# Altium schematic symbol library 1755794.SchLib: 1 symbol
Pins are listed as number, name and electrical type; pins without a type are passive.

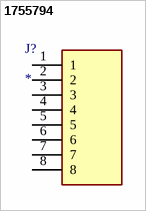
[diagram p0: symbol 1755794]

## 1755794
designator J?
Connector; Manufacturer_Name: Phoenix Contact; Manufacturer_Part_Number: 1755794; Datasheet Link: http://www.phoenixcontact.com/de/produkte/1755794/pdf; Height: 12.15mm; Mouser Part Number: 651-1755794; Mouser Price/Stock: https://www.mouser.co.uk/ProductDetail/Phoenix-Contact/1755794?qs=wd%252Bw3mUqFrk%2FIOZ4HDo8lg%3D%3D; Arrow Part Number: 1755794; Arrow Price/Stock: https://www.arrow.com/en/products/1755794/phoenix-contact?utm_currency=USD&region=nac
footprint 1755794
pins: 1, 2, 3, 4, 5, 6, 7, 8